# EAGLE library part Z8X180 (library z180)
Zilog Z80S180/Z80L180 Packages PLCC and PLCC Socket (Normal and SMD) Armin Diehl 02/2007 diehl@nordrhein.de
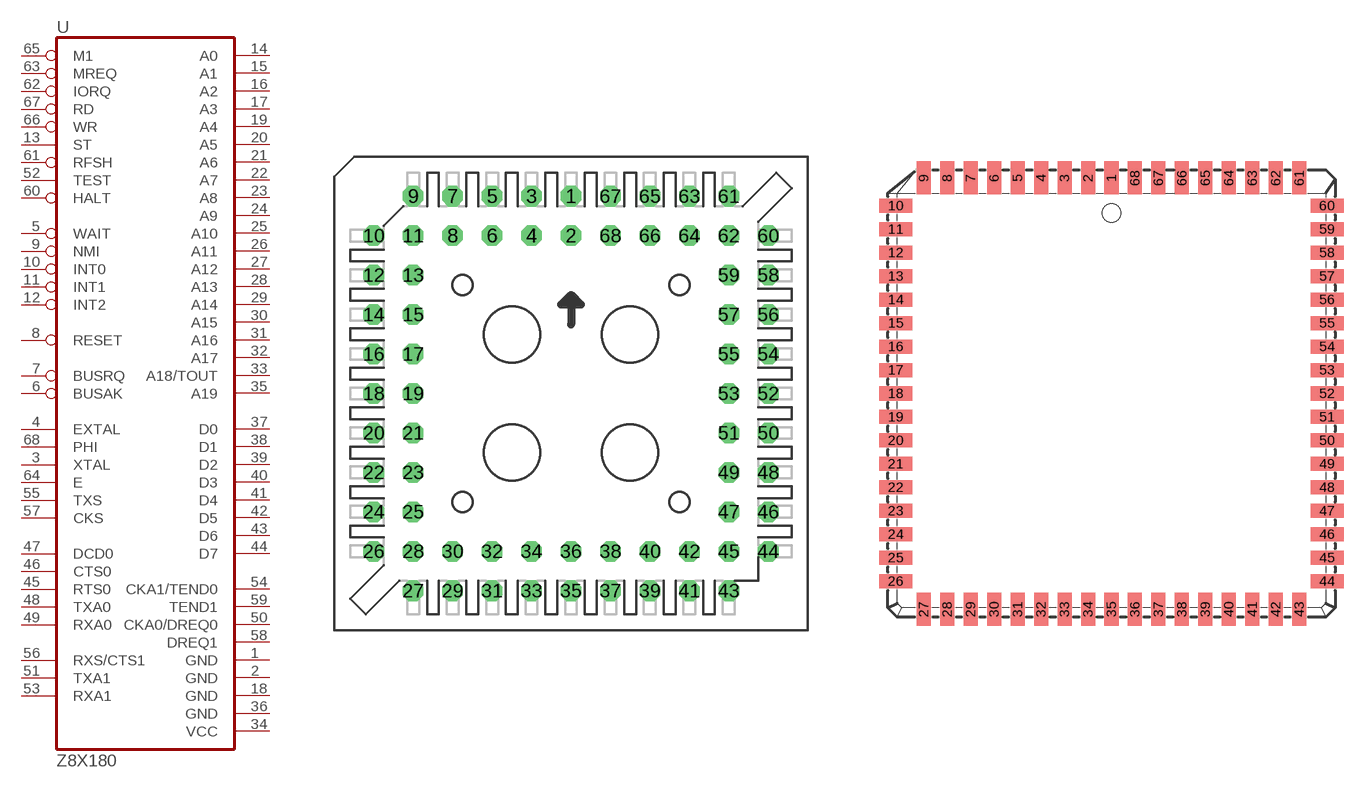
[diagram p0: symbol with the pads of PLCC-S68; footprints PLCC-S68, PLCC68]

Designator prefix -

## Z8X180PLCC68-S  [PLCC-S68]
1  GND  pwr
2  GND  pwr
3  XTAL  in
4  EXTAL  in
5  WAIT  in
6  BUSAK  out
7  BUSRQ  in
8  RESET  in
9  NMI  in
10  INT0  in
11  INT1  in
12  INT2  in
13  ST  out
14  A0  out
15  A1  out
16  A2  out
17  A3  out
18  GND  pwr
19  A4  out
20  A5  out
21  A6  out
22  A7  out
23  A8  out
24  A9  out
25  A10  out
26  A11  out
27  A12  out
28  A13  out
29  A14  out
30  A15  out
31  A16  out
32  A17  out
33  A18/TOUT  out
34  VCC  pwr
35  A19  out
36  GND  pwr
37  D0
38  D1
39  D2
40  D3
41  D4
42  D5
43  D6
44  D7
45  RTS0  out
46  CTS0  in
47  DCD0  in
48  TXA0  out
49  RXA0  in
50  CKA0/DREQ0  in
51  TXA1  out
52  TEST  out
53  RXA1  in
54  CKA1/TEND0  out
55  TXS  out
56  RXS/CTS1  in
57  CKS
58  DREQ1  in
59  TEND1  out
60  HALT  out
61  RFSH  out
62  IORQ  out
63  MREQ  out
64  E  out
65  M1  out
66  WR  out
67  RD  out
68  PHI  in

## Z8X180PLCC68  [PLCC68]
Pads as for PLCC-S68

## Z8X180PLCC68-S-SMD  [PLCCSM68]
Pads as for PLCC-S68

## Footprint PLCC-S68 (pad centres in mm)
PLCC-68 Thru-Hole Socket
drill 0.813 octagon: 1 0,12.7; 2 0,10.16; 3 -2.54,12.7; 4 -2.54,10.16; 5 -5.08,12.7; 6 -5.08,10.16; 7 -7.62,12.7; 8 -7.62,10.16; 9 -10.16,12.7; 10 -12.7,10.16; 11 -10.16,10.16; 12 -12.7,7.62; 13 -10.16,7.62; 14 -12.7,5.08; 15 -10.16,5.08; 16 -12.7,2.54; 17 -10.16,2.54; 18 -12.7,0; 19 -10.16,0; 20 -12.7,-2.54; 21 -10.16,-2.54; 22 -12.7,-5.08; 23 -10.16,-5.08; 24 -12.7,-7.62; 25 -10.16,-7.62; 26 -12.7,-10.16; 27 -10.16,-12.7; 28 -10.16,-10.16; 29 -7.62,-12.7; 30 -7.62,-10.16; 31 -5.08,-12.7; 32 -5.08,-10.16; 33 -2.54,-12.7; 34 -2.54,-10.16; 35 0,-12.7; 36 0,-10.16; 37 2.54,-12.7; 38 2.54,-10.16; 39 5.08,-12.7; 40 5.08,-10.16; 41 7.62,-12.7; 42 7.62,-10.16; 43 10.16,-12.7; 44 12.7,-10.16; 45 10.16,-10.16; 46 12.7,-7.62; 47 10.16,-7.62; 48 12.7,-5.08; 49 10.16,-5.08; 50 12.7,-2.54; 51 10.16,-2.54; 52 12.7,0; 53 10.16,0; 54 12.7,2.54; 55 10.16,2.54; 56 12.7,5.08; 57 10.16,5.08; 58 12.7,7.62; 59 10.16,7.62; 60 12.7,10.16; 61 10.16,12.7; 62 10.16,10.16; 63 7.62,12.7; 64 7.62,10.16; 65 5.08,12.7; 66 5.08,10.16; 67 2.54,12.7; 68 2.54,10.16

## Footprint PLCC68 (pad centres in mm)
PLASTIC LEADED CHIP CARRIER square
smd 0.76 x 1.8: 1 0,11.67; 2 -1.27,11.67; 3 -2.54,11.67; 4 -3.81,11.67; 5 -5.08,11.67; 6 -6.35,11.67; 7 -7.62,11.67; 8 -8.89,11.67; 9 -10.16,11.67; 27 -10.16,-11.67; 28 -8.89,-11.67; 29 -7.62,-11.67; 30 -6.35,-11.67; 31 -5.08,-11.67; 32 -3.81,-11.67; 33 -2.54,-11.67; 34 -1.27,-11.67; 35 0,-11.67; 36 1.27,-11.67; 37 2.54,-11.67; 38 3.81,-11.67; 39 5.08,-11.67; 40 6.35,-11.67; 41 7.62,-11.67; 42 8.89,-11.67; 43 10.16,-11.67; 61 10.16,11.67; 62 8.89,11.67; 63 7.62,11.67; 64 6.35,11.67; 65 5.08,11.67; 66 3.81,11.67; 67 2.54,11.67; 68 1.27,11.67
smd 1.8 x 0.76: 10 -11.67,10.16; 11 -11.67,8.89; 12 -11.67,7.62; 13 -11.67,6.35; 14 -11.67,5.08; 15 -11.67,3.81; 16 -11.67,2.54; 17 -11.67,1.27; 18 -11.67,0; 19 -11.67,-1.27; 20 -11.67,-2.54; 21 -11.67,-3.81; 22 -11.67,-5.08; 23 -11.67,-6.35; 24 -11.67,-7.62; 25 -11.67,-8.89; 26 -11.67,-10.16; 44 11.67,-10.16; 45 11.67,-8.89; 46 11.67,-7.62; 47 11.67,-6.35; 48 11.67,-5.08; 49 11.67,-3.81; 50 11.67,-2.54; 51 11.67,-1.27; 52 11.67,0; 53 11.67,1.27; 54 11.67,2.54; 55 11.67,3.81; 56 11.67,5.08; 57 11.67,6.35; 58 11.67,7.62; 59 11.67,8.89; 60 11.67,10.16

## Footprint PLCCSM68 (pad centres in mm)
PLCC-68 Surface-Mount Socket
smd 0.66 x 2.591: 1 0,12.7; 2 -1.27,12.7; 3 -2.54,12.7; 4 -3.81,12.7; 5 -5.08,12.7; 6 -6.35,12.7; 7 -7.62,12.7; 8 -8.89,12.7; 9 -10.16,12.7; 27 -10.16,-12.7; 28 -8.89,-12.7; 29 -7.62,-12.7; 30 -6.35,-12.7; 31 -5.08,-12.7; 32 -3.81,-12.7; 33 -2.54,-12.7; 34 -1.27,-12.7; 35 0,-12.7; 36 1.27,-12.7; 37 2.54,-12.7; 38 3.81,-12.7; 39 5.08,-12.7; 40 6.35,-12.7; 41 7.62,-12.7; 42 8.89,-12.7; 43 10.16,-12.7; 61 10.16,12.7; 62 8.89,12.7; 63 7.62,12.7; 64 6.35,12.7; 65 5.08,12.7; 66 3.81,12.7; 67 2.54,12.7; 68 1.27,12.7
smd 2.591 x 0.66: 10 -12.7,10.16; 11 -12.7,8.89; 12 -12.7,7.62; 13 -12.7,6.35; 14 -12.7,5.08; 15 -12.7,3.81; 16 -12.7,2.54; 17 -12.7,1.27; 18 -12.7,0; 19 -12.7,-1.27; 20 -12.7,-2.54; 21 -12.7,-3.81; 22 -12.7,-5.08; 23 -12.7,-6.35; 24 -12.7,-7.62; 25 -12.7,-8.89; 26 -12.7,-10.16; 44 12.7,-10.16; 45 12.7,-8.89; 46 12.7,-7.62; 47 12.7,-6.35; 48 12.7,-5.08; 49 12.7,-3.81; 50 12.7,-2.54; 51 12.7,-1.27; 52 12.7,0; 53 12.7,1.27; 54 12.7,2.54; 55 12.7,3.81; 56 12.7,5.08; 57 12.7,6.35; 58 12.7,7.62; 59 12.7,8.89; 60 12.7,10.16